# EAGLE library part TPS73533DRVT (library TPS73533DRVT)
500mA 3.3V Low IQ/Noise LDO Reg. WSON6EP TPS73533DRVT, Low Dropout Voltage Regulator, 500mA, 1 4.3 V +/-1%, 6-Pin SON Source: Datasheet <http://www.ti.com/lit/ds/symlink/tps735.pdf>
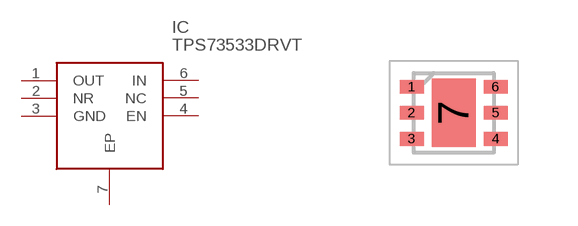
[diagram p0: symbol with the pads of SON65P200X200X80-7N; footprint SON65P200X200X80-7N]

Designator prefix IC

## TPS73533DRVT (Description: 500mA 3.3V Low IQ/Noise LDO Reg. WSON6EP TPS73533DRVT, Low Dropout Voltage Regulator, 500mA, 1 4.3 V +/-1%, 6-Pin SON; Height: 0.8mm; Manufacturer_Name: Texas Instruments; Manufacturer_Part_Number: TPS73533DRVT; Mouser_Part_Number: 595-TPS73533DRVT; Mouser_Price-Stock: https://www.mouser.co.uk/ProductDetail/Texas-Instruments/TPS73533DRVT?qs=IDSsxkoac0yfD47GOItrRw%3D%3D)  [SON65P200X200X80-7N]
1  OUT
2  NR
3  GND
4  EN
5  NC  nc
6  IN
7  EP

## Footprint SON65P200X200X80-7N (pad centres in mm)
BQ294682DRVT
smd 0.6 x 0.35: 1 -1.05,0.65; 2 -1.05,0; 3 -1.05,-0.65; 4 1.05,-0.65; 5 1.05,0; 6 1.05,0.65
smd 1.1 x 1.7: 7 0,0